# Altium schematic symbol library GRM21BR60J476ME15L.SchLib: 1 symbol
Pins are listed as number, name and electrical type; pins without a type are passive.

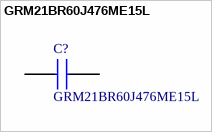
[diagram p0: symbol GRM21BR60J476ME15L]

## GRM21BR60J476ME15L
designator C?
Murata 0805 GRM 47F Ceramic Multilayer Capacitor, 6.3 V dc, +85C, X5R Dielectric, 20% SMD; Manufacturer_Name: Murata Electronics; Geometry.Height: 1.45mm; Mouser Part Number: 81-GRM21BR60J476ME5L; Manufacturer_Part_Number: GRM21BR60J476ME15L; Datasheet Link: https://componentsearchengine.com/Datasheets/1/GRM21BR60J476ME15L.pdf
footprint CAPC2012X145N
pins: 1, 2